# EAGLE library part MD06SS (library xess)
YAMAICHI CONNECTOR
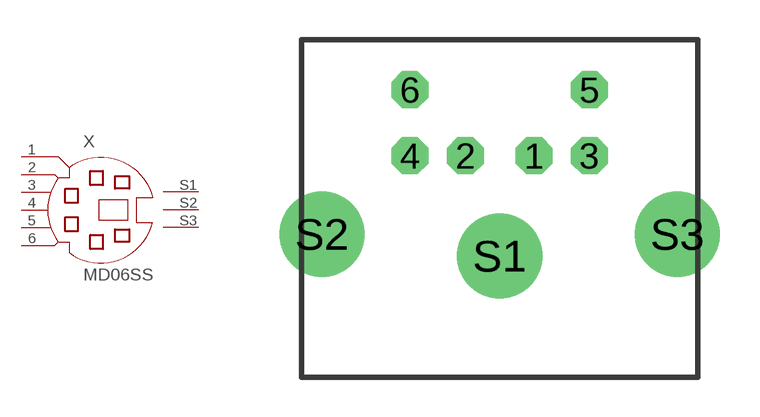
[diagram p36: symbol with the pads of MDIN06SS; footprint MDIN06SS]

Designator prefix X

## MD06SS  [MDIN06SS]
1  1  pas
2  2  pas
3  3  pas
4  4  pas
5  5  pas
6  6  pas
S1  S1
S2  S2
S3  S3

## Footprint MDIN06SS (pad centres in mm)
Mini Din YAMAICHI CONNECTOR
drill 0.9 octagon: 1 1.3,8.5; 2 -1.3,8.5; 3 3.4,8.5; 4 -3.4,8.5; 5 3.4,11; 6 -3.4,11
drill 2.21 round: S1 0,4.699; S2 -6.731,5.524; S3 6.731,5.524